# EAGLE library part 0528520870 (library RoboJackets-Connectors)
Description: 8 Position FFC, FPC Connector Contacts, Bottom 0.039" (1.00mm) Surface Mount, Right Angle Link: Digi-Key <https://www.digikey.com/product-detail/en/molex/0528520870/WM3890CT-ND/2421853>
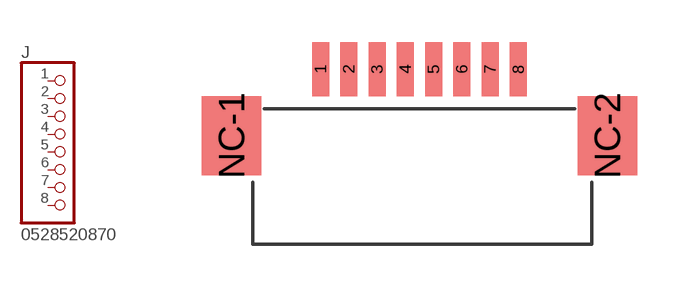
[diagram p3: symbol with the pads of 52852-08; footprint 52852-08]

Designator prefix J

## 052852087070 (DKPN: WM3890CT-ND)  [52852-08]
1  1  pas
2  2  pas
3  3  pas
4  4  pas
5  5  pas
6  6  pas
7  7  pas
8  8  pas

## Footprint 52852-08 (pad centres in mm)
smd 0.6 x 1.9: 1 -3,2.5; 2 -2,2.5; 3 -1,2.5; 4 0,2.5; 5 1,2.5; 6 2,2.5; 7 3,2.5; 8 4,2.5
smd 2.1 x 2.8: NC-1 -6.15,0.15; NC-2 7.15,0.15